# Altium footprint library PCBLibrary.PcbLib: 38 footprints (part 2 of 3)
Each footprint in its own frame and in the unit in brackets; x right, y up, seen from the top. Pads: shape width x height; smd on the part's side, far side on the other; paste and mask are expansions set on the pad; w line width, h text height; cw(c..) or ccw(c..) is an arc to the next point about the centre after c.
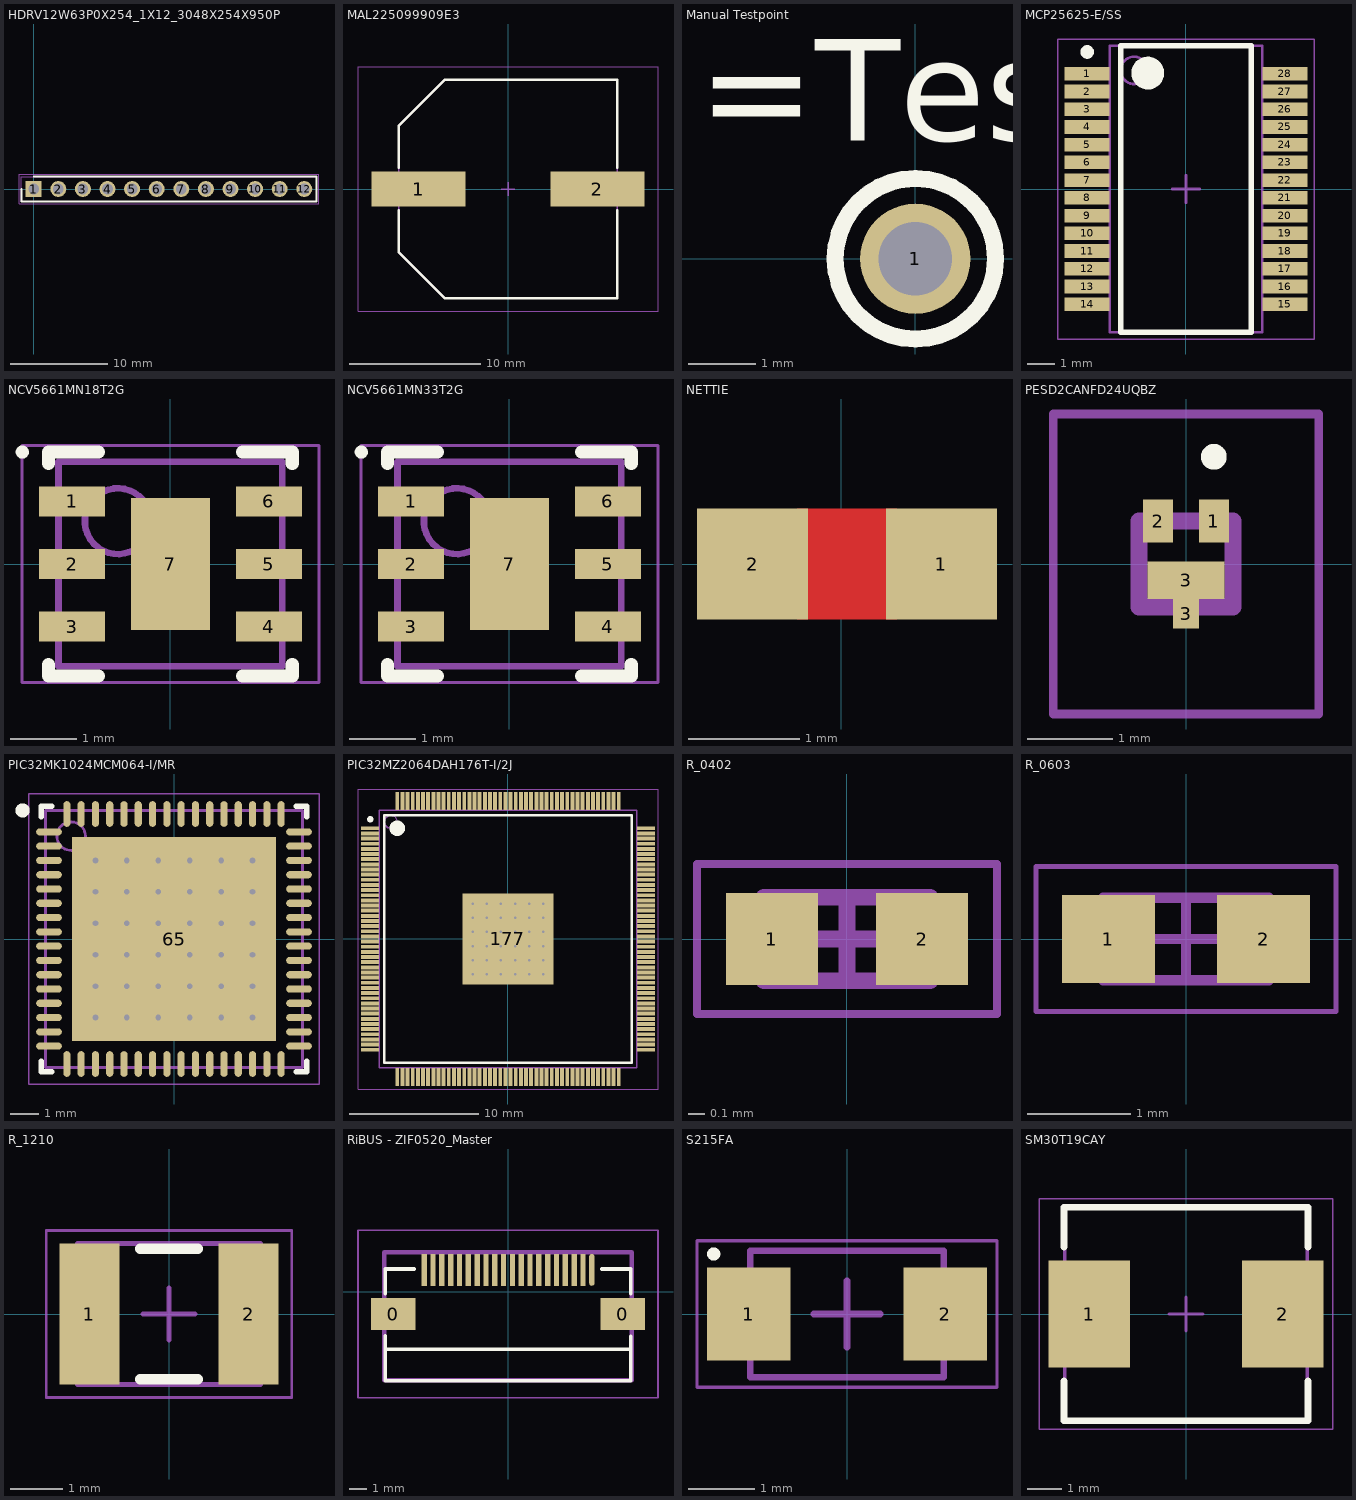
[diagram p1: the footprints below, top view; thin cyan lines are the x and y axes]

## HDRV12W63P0X254_1X12_3048X254X950P [mm]
pads (12):
  rect 1.65x1.65 hole 1.1: 1(0,0)
  round 1.65 hole 1.1: 2(2.54,0) 3(5.08,0) 4(7.62,0) 5(10.16,0) 6(12.7,0) 7(15.24,0) 8(17.78,0) 9(20.32,0) 10(22.86,0) 11(25.4,0) 12(27.94,0)
Top Overlay:
  lines w0.2: -1.27,0 -1.27,-1.27 29.21,-1.27 29.21,1.27 0,1.27
Mechanical 13:
  lines w0.1: -1.27,-1.27 -1.27,1.27 29.21,1.27 29.21,-1.27 -1.27,-1.27
Mechanical 15:
  lines w0.05: -1.52,-1.52 -1.52,1.52 29.46,1.52 29.46,-1.52 -1.52,-1.52
3D body "1-825433-2.stp": height 9.5, standoff -3.2, extent -1.455,-2.45 29.025,1.2

## MAL225099909E3 [mm]
height 17.5
pads (2):
  rect 7.15x2.65 smd: 1(-6.8,0) 2(6.8,0)
Top Overlay:
  lines w0.2: -8.3,-1.625 -8.3,-4.812 -4.812,-8.3 8.3,-8.3 8.3,-1.625 ; -8.3,1.625 -8.3,4.812 -4.812,8.3 8.3,8.3 8.3,1.625
Mechanical 13:
  lines w0.1: -8.3,-4.812 -8.3,4.812 -4.812,8.3 8.3,8.3 8.3,-8.3 -4.812,-8.3 -8.3,-4.812
Mechanical 15:
  lines w0.05: -11.4,-9.3 11.4,-9.3 11.4,9.3 -11.4,9.3 -11.4,-9.3
  lines w0.1: -0.5,0 0.5,0 ; 0,-0.5 0,0.5
3D body "MAL225099909E3.step": height 17.5, standoff 0, extent -9.3,-8.3 9.3,8.3

## Manual Testpoint [mm]
pads (1):
  round 1.65 hole 1.1: 1(0,0)
Top Overlay:
  circle w0.254: c0,0 r1.2
  text "=TestpointName" at -3.246,1.762 h1.52

## MCP25625-E/SS [mm] "CAN Transciever and Controller SPI"
height 2
pads (28):
  rect 1.65x0.5 smd: 1(-3.625,4.225) 2(-3.625,3.575) 3(-3.625,2.925) 4(-3.625,2.275) 5(-3.625,1.625) 6(-3.625,0.975) 7(-3.625,0.325) 8(-3.625,-0.325) 9(-3.625,-0.975) 10(-3.625,-1.625) 11(-3.625,-2.275) 12(-3.625,-2.925) 13(-3.625,-3.575) 14(-3.625,-4.225) 15(3.625,-4.225) 16(3.625,-3.575) 17(3.625,-2.925) 18(3.625,-2.275) 19(3.625,-1.625) 20(3.625,-0.975) 21(3.625,-0.325) 22(3.625,0.325) 23(3.625,0.975) 24(3.625,1.625) 25(3.625,2.275) 26(3.625,2.925) 27(3.625,3.575) 28(3.625,4.225)
Top Overlay:
  circle w0.6: c-1.4,4.25 r0.3
  circle w0.25: c-3.625,5.025 r0.125
  lines w0.2: -2.4,-5.25 2.4,-5.25 2.4,5.25 -2.4,5.25 -2.4,-5.25
Mechanical 13:
  circle w0.1: c-1.9,4.35 r0.5
  lines w0.1: -2.8,-5.25 2.8,-5.25 2.8,5.25 -2.8,5.25 -2.8,-5.25
Mechanical 15:
  lines w0.05: -4.7,-5.5 4.7,-5.5 4.7,5.5 -4.7,5.5 -4.7,-5.5
  lines w0.1: -0.5,0 0.5,0 ; 0,-0.5 0,0.5
3D body: height 2, standoff 0.05, extent -2.8,-5.25 2.8,5.25

## NCV5661MN18T2G [mm] "SON, 6-Leads, Body 3,00x3,30mm, Pitch 0,95mm, Thermal Pad 2,00x1,20mm, IPC Medium Density"
height 1
pads (7):
  rect 1x0.45 smd: 1(-1.495,0.95) 2(-1.495,0) 3(-1.495,-0.95) 4(1.495,-0.95) 5(1.495,0) 6(1.495,0.95)
  rect 1.2x2 smd: 7(0,0)
Top Overlay:
  circle w0.1: c-2.25,1.7 r0.05
  lines w0.2: -1.85,-1.525 -1.85,-1.7 -1.095,-1.7 ; -1.85,1.525 -1.85,1.7 -1.095,1.7 ; 1.095,-1.7 1.85,-1.7 1.85,-1.525 ; 1.095,1.7 1.85,1.7 1.85,1.525
Mechanical 13:
  circle w0.1: c-0.8,0.65 r0.5
  lines w0.1: -1.7,-1.55 1.7,-1.55 1.7,1.55 -1.7,1.55 -1.7,-1.55
Mechanical 15:
  lines w0.05: -2.255,-1.8 2.255,-1.8 2.255,1.8 -2.255,1.8 -2.255,-1.8
  lines w0.1: -0.5,0 0.5,0 ; 0,-0.5 0,0.5
3D body "NCV5661MN18T2G.step": height 1, standoff 0, extent -1.75,-1.55 1.75,1.55

## NCV5661MN33T2G [mm] "SON, 6-Leads, Body 3,00x3,30mm, Pitch 0,95mm, Thermal Pad 2,00x1,20mm, IPC Medium Density"
height 1
pads (7):
  rect 1x0.45 smd: 1(-1.495,0.95) 2(-1.495,0) 3(-1.495,-0.95) 4(1.495,-0.95) 5(1.495,0) 6(1.495,0.95)
  rect 1.2x2 smd: 7(0,0)
Top Overlay:
  circle w0.1: c-2.25,1.7 r0.05
  lines w0.2: -1.85,-1.525 -1.85,-1.7 -1.095,-1.7 ; -1.85,1.525 -1.85,1.7 -1.095,1.7 ; 1.095,-1.7 1.85,-1.7 1.85,-1.525 ; 1.095,1.7 1.85,1.7 1.85,1.525
Mechanical 13:
  circle w0.1: c-0.8,0.65 r0.5
  lines w0.1: -1.7,-1.55 -1.7,1.55 1.7,1.55 1.7,-1.55 -1.7,-1.55
Mechanical 15:
  lines w0.05: -2.255,-1.8 -2.255,1.8 2.255,1.8 2.255,-1.8 -2.255,-1.8
  lines w0.1: -0.5,0 0.5,0 ; 0,-0.5 0,0.5
3D body "NCV5661MN18T2G.step": height 1, standoff 0, extent -1.75,-1.55 1.75,1.55

## NETTIE [mm]
pads (2):
  rect 1x1 smd paste-2539.97 mask+0.102: 1(0.9,0) 2(-0.8,0)
Top Layer:
  rectangle: -0.4,-0.5 0.5,0.5

## PESD2CANFD24UQBZ [mm]
pads (4):
  rect 0.35x0.5 smd: 1(0.325,0.5) 2(-0.325,0.5)
  rect 0.3x0.34 smd: 3(0,-0.58)
  rect 0.9x0.44 smd: 3(0,-0.19)
Top Overlay:
  lines w0.2: 0.325,1.2 cw(c0.325,1.25) 0.325,1.3 ; 0.325,1.2 ccw(c0.325,1.25) 0.325,1.3 ; 0.325,1.2 cw(c0.325,1.25) 0.325,1.3
Mechanical 13:
  lines w0.2: -0.55,-0.5 0.55,-0.5 0.55,0.5 -0.55,0.5 -0.55,-0.5
Mechanical 15:
  lines w0.1: -1.55,-1.75 1.55,-1.75 1.55,1.75 -1.55,1.75 -1.55,-1.75
3D body "BC847CQBZ.stp": height 0.6, standoff 0, extent -0.55,-0.72 0.55,0.715

## PIC32MK1024MCM064-I/MR [mm] "QFN, 64-Leads, Body 9,00x9,00mm, Pitch 0,50mm, Thermal Pad 7,15x7,15mm, IPC Medium Density"
height 1
pads (65):
  oval 0.9x0.25 smd: 1(-4.375,3.75) 2(-4.375,3.25) 3(-4.375,2.75) 4(-4.375,2.25) 5(-4.375,1.75) 6(-4.375,1.25) 7(-4.375,0.75) 8(-4.375,0.25) 9(-4.375,-0.25) 10(-4.375,-0.75) 11(-4.375,-1.25) 12(-4.375,-1.75) 13(-4.375,-2.25) 14(-4.375,-2.75) 15(-4.375,-3.25) 16(-4.375,-3.75) 33(4.375,-3.75) 34(4.375,-3.25) 35(4.375,-2.75) 36(4.375,-2.25) 37(4.375,-1.75) 38(4.375,-1.25) 39(4.375,-0.75) 40(4.375,-0.25) 41(4.375,0.25) 42(4.375,0.75) 43(4.375,1.25) 44(4.375,1.75) 45(4.375,2.25) 46(4.375,2.75) 47(4.375,3.25) 48(4.375,3.75)
  oval 0.25x0.9 smd: 17(-3.75,-4.375) 18(-3.25,-4.375) 19(-2.75,-4.375) 20(-2.25,-4.375) 21(-1.75,-4.375) 22(-1.25,-4.375) 23(-0.75,-4.375) 24(-0.25,-4.375) 25(0.25,-4.375) 26(0.75,-4.375) 27(1.25,-4.375) 28(1.75,-4.375) 29(2.25,-4.375) 30(2.75,-4.375) 31(3.25,-4.375) 32(3.75,-4.375) 49(3.75,4.375) 50(3.25,4.375) 51(2.75,4.375) 52(2.25,4.375) 53(1.75,4.375) 54(1.25,4.375) 55(0.75,4.375) 56(0.25,4.375) 57(-0.25,4.375) 58(-0.75,4.375) 59(-1.25,4.375) 60(-1.75,4.375) 61(-2.25,4.375) 62(-2.75,4.375) 63(-3.25,4.375) 64(-3.75,4.375)
  rect 7.15x7.15 smd: 65(0,0)
via -2.75,2.75 diameter 0.5 hole 0.2
via -1.65,2.75 diameter 0.5 hole 0.2
via -0.55,2.75 diameter 0.5 hole 0.2
via 0.55,2.75 diameter 0.5 hole 0.2
via 1.65,2.75 diameter 0.5 hole 0.2
via 2.75,2.75 diameter 0.5 hole 0.2
via -2.75,1.65 diameter 0.5 hole 0.2
via -1.65,1.65 diameter 0.5 hole 0.2
via -0.55,1.65 diameter 0.5 hole 0.2
via 0.55,1.65 diameter 0.5 hole 0.2
via 1.65,1.65 diameter 0.5 hole 0.2
via 2.75,1.65 diameter 0.5 hole 0.2
via -2.75,0.55 diameter 0.5 hole 0.2
via -1.65,0.55 diameter 0.5 hole 0.2
via -0.55,0.55 diameter 0.5 hole 0.2
via 0.55,0.55 diameter 0.5 hole 0.2
via 1.65,0.55 diameter 0.5 hole 0.2
via 2.75,0.55 diameter 0.5 hole 0.2
via -2.75,-0.55 diameter 0.5 hole 0.2
via -1.65,-0.55 diameter 0.5 hole 0.2
via -0.55,-0.55 diameter 0.5 hole 0.2
via 0.55,-0.55 diameter 0.5 hole 0.2
via 1.65,-0.55 diameter 0.5 hole 0.2
via 2.75,-0.55 diameter 0.5 hole 0.2
via -2.75,-1.65 diameter 0.5 hole 0.2
via -1.65,-1.65 diameter 0.5 hole 0.2
via -0.55,-1.65 diameter 0.5 hole 0.2
via 0.55,-1.65 diameter 0.5 hole 0.2
via 1.65,-1.65 diameter 0.5 hole 0.2
via 2.75,-1.65 diameter 0.5 hole 0.2
via -2.75,-2.75 diameter 0.5 hole 0.2
via -1.65,-2.75 diameter 0.5 hole 0.2
via -0.55,-2.75 diameter 0.5 hole 0.2
via 0.55,-2.75 diameter 0.5 hole 0.2
via 1.65,-2.75 diameter 0.5 hole 0.2
via 2.75,-2.75 diameter 0.5 hole 0.2
Top Overlay:
  circle w0.25: c-5.3,4.5 r0.125
  lines w0.2: -4.65,-4.275 -4.65,-4.65 -4.275,-4.65 ; -4.65,4.275 -4.65,4.65 -4.275,4.65 ; 4.275,-4.65 4.65,-4.65 4.65,-4.275 ; 4.275,4.65 4.65,4.65 4.65,4.275
Mechanical 13:
  circle w0.1: c-3.6,3.6 r0.5
  lines w0.1: -4.5,-4.5 -4.5,4.5 4.5,4.5 4.5,-4.5 -4.5,-4.5
Mechanical 15:
  lines w0.05: -5.075,-5.075 -5.075,5.075 5.075,5.075 5.075,-5.075 -5.075,-5.075
  lines w0.1: -0.5,0 0.5,0 ; 0,-0.5 0,0.5
3D body: height 1, standoff 0.05, extent -4.5,-4.5 4.5,4.5

## PIC32MZ2064DAH176T-I/2J [mm] "TSQFP, 176-Leads, Body 20,00x20,00mm, Pitch 0,40mm, Thermal Pad 7,10x7,10mm, IPC Medium Density"
height 1.6
pads (177):
  rect 1.4x0.3 smd: 1(-10.7,8.6) 2(-10.7,8.2) 3(-10.7,7.8) 4(-10.7,7.4) 5(-10.7,7) 6(-10.7,6.6) 7(-10.7,6.2) 8(-10.7,5.8) 9(-10.7,5.4) 10(-10.7,5) 11(-10.7,4.6) 12(-10.7,4.2) 13(-10.7,3.8) 14(-10.7,3.4) 15(-10.7,3) 16(-10.7,2.6) 17(-10.7,2.2) 18(-10.7,1.8) 19(-10.7,1.4) 20(-10.7,1) 21(-10.7,0.6) 22(-10.7,0.2) 23(-10.7,-0.2) 24(-10.7,-0.6) 25(-10.7,-1) 26(-10.7,-1.4) 27(-10.7,-1.8) 28(-10.7,-2.2) 29(-10.7,-2.6) 30(-10.7,-3) 31(-10.7,-3.4) 32(-10.7,-3.8) 33(-10.7,-4.2) 34(-10.7,-4.6) 35(-10.7,-5) 36(-10.7,-5.4) 37(-10.7,-5.8) 38(-10.7,-6.2) 39(-10.7,-6.6) 40(-10.7,-7) 41(-10.7,-7.4) 42(-10.7,-7.8) 43(-10.7,-8.2) 44(-10.7,-8.6) 89(10.7,-8.6) 90(10.7,-8.2) 91(10.7,-7.8) 92(10.7,-7.4) 93(10.7,-7) 94(10.7,-6.6) 95(10.7,-6.2) 96(10.7,-5.8) 97(10.7,-5.4) 98(10.7,-5) 99(10.7,-4.6) 100(10.7,-4.2) 101(10.7,-3.8) 102(10.7,-3.4) 103(10.7,-3) 104(10.7,-2.6) 105(10.7,-2.2) 106(10.7,-1.8) 107(10.7,-1.4) 108(10.7,-1) 109(10.7,-0.6) 110(10.7,-0.2) 111(10.7,0.2) 112(10.7,0.6) 113(10.7,1) 114(10.7,1.4) 115(10.7,1.8) 116(10.7,2.2) 117(10.7,2.6) 118(10.7,3) 119(10.7,3.4) 120(10.7,3.8) 121(10.7,4.2) 122(10.7,4.6) 123(10.7,5) 124(10.7,5.4) 125(10.7,5.8) 126(10.7,6.2) 127(10.7,6.6) 128(10.7,7) 129(10.7,7.4) 130(10.7,7.8) 131(10.7,8.2) 132(10.7,8.6)
  rect 0.3x1.4 smd: 45(-8.6,-10.7) 46(-8.2,-10.7) 47(-7.8,-10.7) 48(-7.4,-10.7) 49(-7,-10.7) 50(-6.6,-10.7) 51(-6.2,-10.7) 52(-5.8,-10.7) 53(-5.4,-10.7) 54(-5,-10.7) 55(-4.6,-10.7) 56(-4.2,-10.7) 57(-3.8,-10.7) 58(-3.4,-10.7) 59(-3,-10.7) 60(-2.6,-10.7) 61(-2.2,-10.7) 62(-1.8,-10.7) 63(-1.4,-10.7) 64(-1,-10.7) 65(-0.6,-10.7) 66(-0.2,-10.7) 67(0.2,-10.7) 68(0.6,-10.7) 69(1,-10.7) 70(1.4,-10.7) 71(1.8,-10.7) 72(2.2,-10.7) 73(2.6,-10.7) 74(3,-10.7) 75(3.4,-10.7) 76(3.8,-10.7) 77(4.2,-10.7) 78(4.6,-10.7) 79(5,-10.7) 80(5.4,-10.7) 81(5.8,-10.7) 82(6.2,-10.7) 83(6.6,-10.7) 84(7,-10.7) 85(7.4,-10.7) 86(7.8,-10.7) 87(8.2,-10.7) 88(8.6,-10.7) 133(8.6,10.7) 134(8.2,10.7) 135(7.8,10.7) 136(7.4,10.7) 137(7,10.7) 138(6.6,10.7) 139(6.2,10.7) 140(5.8,10.7) 141(5.4,10.7) 142(5,10.7) 143(4.6,10.7) 144(4.2,10.7) 145(3.8,10.7) 146(3.4,10.7) 147(3,10.7) 148(2.6,10.7) 149(2.2,10.7) 150(1.8,10.7) 151(1.4,10.7) 152(1,10.7) 153(0.6,10.7) 154(0.2,10.7) 155(-0.2,10.7) 156(-0.6,10.7) 157(-1,10.7) 158(-1.4,10.7) 159(-1.8,10.7) 160(-2.2,10.7) 161(-2.6,10.7) 162(-3,10.7) 163(-3.4,10.7) 164(-3.8,10.7) 165(-4.2,10.7) 166(-4.6,10.7) 167(-5,10.7) 168(-5.4,10.7) 169(-5.8,10.7) 170(-6.2,10.7) 171(-6.6,10.7) 172(-7,10.7) 173(-7.4,10.7) 174(-7.8,10.7) 175(-8.2,10.7) 176(-8.6,10.7)
  rect 7.1x7.1 smd: 177(0,0)
via 2.75,-2.75 diameter 0.5 hole 0.2
via 1.65,-2.75 diameter 0.5 hole 0.2
via 0.55,-2.75 diameter 0.5 hole 0.2
via -0.55,-2.75 diameter 0.5 hole 0.2
via -1.65,-2.75 diameter 0.5 hole 0.2
via -2.75,-2.75 diameter 0.5 hole 0.2
via 2.75,-1.65 diameter 0.5 hole 0.2
via 1.65,-1.65 diameter 0.5 hole 0.2
via 0.55,-1.65 diameter 0.5 hole 0.2
via -0.55,-1.65 diameter 0.5 hole 0.2
via -1.65,-1.65 diameter 0.5 hole 0.2
via -2.75,-1.65 diameter 0.5 hole 0.2
via 2.75,-0.55 diameter 0.5 hole 0.2
via 1.65,-0.55 diameter 0.5 hole 0.2
via 0.55,-0.55 diameter 0.5 hole 0.2
via -0.55,-0.55 diameter 0.5 hole 0.2
via -1.65,-0.55 diameter 0.5 hole 0.2
via -2.75,-0.55 diameter 0.5 hole 0.2
via 2.75,0.55 diameter 0.5 hole 0.2
via 1.65,0.55 diameter 0.5 hole 0.2
via 0.55,0.55 diameter 0.5 hole 0.2
via -0.55,0.55 diameter 0.5 hole 0.2
via -1.65,0.55 diameter 0.5 hole 0.2
via -2.75,0.55 diameter 0.5 hole 0.2
via 2.75,1.65 diameter 0.5 hole 0.2
via 1.65,1.65 diameter 0.5 hole 0.2
via 0.55,1.65 diameter 0.5 hole 0.2
via -0.55,1.65 diameter 0.5 hole 0.2
via -1.65,1.65 diameter 0.5 hole 0.2
via -2.75,1.65 diameter 0.5 hole 0.2
via 2.75,2.75 diameter 0.5 hole 0.2
via 1.65,2.75 diameter 0.5 hole 0.2
via 0.55,2.75 diameter 0.5 hole 0.2
via -0.55,2.75 diameter 0.5 hole 0.2
via -1.65,2.75 diameter 0.5 hole 0.2
via -2.75,2.75 diameter 0.5 hole 0.2
Top Overlay:
  circle w0.6: c-8.6,8.6 r0.3
  circle w0.25: c-10.7,9.3 r0.125
  lines w0.2: -9.6,-9.6 9.6,-9.6 9.6,9.6 -9.6,9.6 -9.6,-9.6
Mechanical 13:
  circle w0.1: c-9.1,9.1 r0.5
  lines w0.1: -10,-10 10,-10 10,10 -10,10 -10,-10
Mechanical 15:
  lines w0.05: -11.65,-11.65 11.65,-11.65 11.65,11.65 -11.65,11.65 -11.65,-11.65
  lines w0.1: -0.5,0 0.5,0 ; 0,-0.5 0,0.5
3D body: height 1.6, standoff 0.15, extent -10,-10 10,10

## R_0402 [mm]
height 0.5
pads (2):
  rect 0.55x0.55 smd: 1(-0.45,0) 2(0.45,0)
Mechanical 13:
  lines w0.1: -0.5,-0.25 0.5,-0.25 0.5,0.25 -0.5,0.25 -0.5,-0.25
Mechanical 15:
  lines w0.05: -0.9,-0.45 0.9,-0.45 0.9,0.45 -0.9,0.45 -0.9,-0.45
  lines w0.1: -0.25,0 0.25,0 ; 0,-0.25 0,0.25
3D body: height 0.5, standoff 0, extent 0.2,-0.25 0.5,0.25
3D body: height 0.5, standoff 0, extent -0.5,-0.25 -0.2,0.25
3D body: height 0.5, standoff 0, extent -0.2,-0.25 0.2,0.25

## R_0603 [mm]
height 0.8
pads (2):
  rect 0.9x0.85 smd: 1(-0.75,0) 2(0.75,0)
Mechanical 13:
  lines w0.1: -0.8,-0.4 -0.8,0.4 0.8,0.4 0.8,-0.4 -0.8,-0.4
Mechanical 15:
  lines w0.05: -1.45,-0.7 -1.45,0.7 1.45,0.7 1.45,-0.7 -1.45,-0.7
  lines w0.1: -0.4,0 0.4,0 ; 0,-0.4 0,0.4
3D body: height 0.8, standoff 0, extent -0.45,-0.4 0.45,0.4
3D body: height 0.8, standoff 0, extent -0.8,-0.4 -0.45,0.4
3D body: height 0.8, standoff 0, extent 0.45,-0.4 0.8,0.4

## R_1210 [mm]
height 1
pads (2):
  rect 1.15x2.7 smd: 1(-1.525,0) 2(1.525,0)
Top Overlay:
  lines w0.2: -0.55,-1.25 0.55,-1.25 ; -0.55,1.25 0.55,1.25
Mechanical 13:
  lines w0.1: -1.75,-1.35 1.75,-1.35 1.75,1.35 -1.75,1.35 -1.75,-1.35
Mechanical 15:
  lines w0.05: -2.35,-1.6 2.35,-1.6 2.35,1.6 -2.35,1.6 -2.35,-1.6
  lines w0.1: -0.5,0 0.5,0 ; 0,-0.5 0,0.5
3D body "R_1210.step": height 1, standoff 0, extent -1.75,-1.35 1.75,1.35

## RiBUS - ZIF0520_Master [mm]
pads (22):
  rect 2.5x1.8 smd: 0(-6.5,-1.25) 0(6.5,-1.25)
  oval 0.3x1.8 smd: 1(4.75,1.25)
  rect 0.3x1.8 smd: 2(4.25,1.25) 3(3.75,1.25) 4(3.25,1.25) 5(2.75,1.25) 6(2.25,1.25) 7(1.75,1.25) 8(1.25,1.25) 9(0.75,1.25) 10(0.25,1.25) 11(-0.25,1.25) 12(-0.75,1.25) 13(-1.25,1.25) 14(-1.75,1.25) 15(-2.25,1.25) 16(-2.75,1.25) 17(-3.25,1.25) 18(-3.75,1.25) 19(-4.25,1.25) 20(-4.75,1.25)
Top Overlay:
  lines w0.2: -6.951,-0.1 -6.951,1.3 -5.3,1.3 ; -6.944,-2.476 -6.944,-5.041 -3.401,-5.041 1.807,-5.041 4.759,-5.041 6.952,-5.041 6.952,-3.502 6.952,-2.5 ; -6.887,-3.25 5.55,-3.25 6.952,-3.25 ; 5.3,1.3 6.948,1.3 6.948,-0.1
Mechanical 13:
  lines w0.254: -7,-5 7,-5 7,2.25 -7,2.25 -7,-5
Mechanical 15:
  lines w0.1: -8.5,-6 8.5,-6 8.5,3.5 -8.5,3.5 -8.5,-6
3D body "ZIF0520Dh-CF25.stp": height 2.6, standoff 0, extent -7.05,-5.14 7.05,2

## S215FA [mm]
height 1.43
pads (2):
  rect 1.25x1.4 smd: 1(-1.475,0) 2(1.475,0)
Top Overlay:
  circle w0.1: c-2,0.9 r0.05
Mechanical 13:
  lines w0.1: -1.45,-0.95 1.45,-0.95 1.45,0.95 -1.45,0.95 -1.45,-0.95
Mechanical 15:
  lines w0.05: -2.25,-1.1 2.25,-1.1 2.25,1.1 -2.25,1.1 -2.25,-1.1
  lines w0.1: -0.5,0 0.5,0 ; 0,-0.5 0,0.5
3D body "S215FA.step": height 1.43, standoff 0, extent -1.8,-0.95 1.8,0.95

## SM30T19CAY [mm]
height 2.65
pads (2):
  rect 2.4x3.15 smd: 1(-2.85,0) 2(2.85,0)
Top Overlay:
  lines w0.2: -3.6,-1.975 -3.6,-3.15 3.6,-3.15 3.6,-1.975 ; -3.6,1.975 -3.6,3.15 3.6,3.15 3.6,1.975
Mechanical 13:
  lines w0.1: -3.575,-3.125 3.575,-3.125 3.575,3.125 -3.575,3.125 -3.575,-3.125
Mechanical 15:
  lines w0.05: -4.325,-3.4 4.325,-3.4 4.325,3.4 -4.325,3.4 -4.325,-3.4
  lines w0.1: -0.5,0 0.5,0 ; 0,-0.5 0,0.5
3D body "SM30T19CAY.step": height 2.65, standoff 0, extent -3.795,-3.125 3.795,3.125